# Altium schematic symbol library Schlib.SchLib: 28 symbols
Pins are listed as number, name and electrical type; pins without a type are passive.

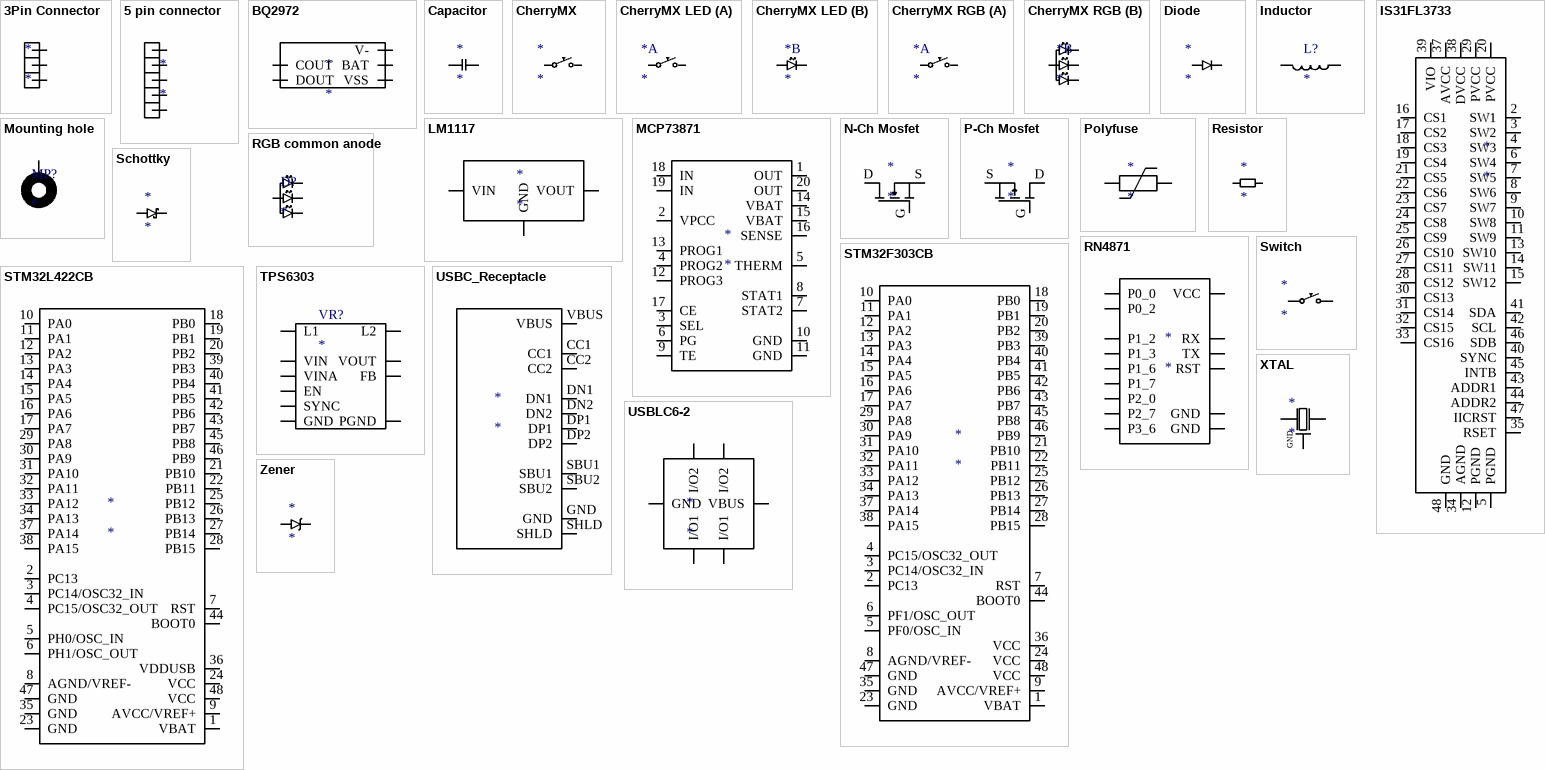
[diagram p0: symbols 3Pin Connector to Zener]

## 3Pin Connector
designator *
pins: 1, 2, 3

## 5 pin connector
designator *
pins: 1, 2, 3, 4, 5

## BQ2972
designator *
pins: 2 COUT, 3 DOUT, 4 VSS, 5 BAT, 6 V-

## Capacitor
designator *
pins: 1 6, 2 7

## CherryMX
designator *
pins: 1 4, 2 5

## CherryMX LED
designator *
part A pins: 1 4, 2 5
part B pins: A 6, K 7

## CherryMX RGB
designator *
part A pins: 1 4, 2 5
part B pins: A 6, B 7, G 7, R 7

## Diode
designator *
pins: A 6, K 7

## Inductor
designator L?
pins: 1, 2

## IS31FL3733
designator *
pins: 2 SW1, 3 SW2, 4 SW3, 5 PGND, 6 SW4, 7 SW5, 8 SW6, 9 SW7, 10 SW8, 11 SW9, 12 PGND, 13 SW10, 14 SW11, 15 SW12, 16 CS1, 17 CS2, 18 CS3, 19 CS4, 20 PVCC, 21 CS5, 22 CS6, 23 CS7, 24 CS8, 25 CS9, 26 CS10, 27 CS11, 28 CS12, 29 PVCC, 30 CS13, 31 CS14, 32 CS15, 33 CS16, 34 AGND, 35 RSET, 37 AVCC, 38 DVCC, 39 VIO, 40 SYNC, 41 SDA, 42 SCL, 43 ADDR1, 44 ADDR2, 45 INTB, 46 SDB, 47 IICRST, 48 GND

## LM1117
designator *
pins: 1 GND, 2 VOUT, 3 VIN

## MCP73871
designator *
pins: 1 OUT, 2 VPCC, 3 SEL, 4 PROG2, 5 THERM, 6 PG, 7 STAT2, 8 STAT1, 9 TE, 10 GND, 11 GND, 12 PROG3, 13 PROG1, 14 VBAT, 15 VBAT, 16 SENSE, 17 CE, 18 IN, 19 IN, 20 OUT

## Mounting hole
designator MP?
pins: 1

## N-Ch Mosfet
designator *
pins: D, G, S

## P-Ch Mosfet
designator *
pins: D, G, S

## Polyfuse
designator *
pins: 1 17, 2 18

## Resistor
designator *
pins: 1 7, 2 6

## RGB common anode
designator D?
pins: A 6, B 7, G 7, R 7

## RN4871
designator *
pins: 2 GND, 3 P1_2, 4 P1_3, 5 P1_7, 6 P1_6, 7 RX, 8 TX, 9 P3_6, 10 RST, 11 P0_0, 12 P0_2, 13 GND, 14 VCC, 15 P2_7, 16 P2_0

## Schottky
designator *
pins: A 6, K 7

## STM32F303CB
designator *
pins: 1 VBAT, 2 PC13, 3 PC14/OSC32_IN, 4 PC15/OSC32_OUT, 5 PF0/OSC_IN, 6 PF1/OSC_OUT, 7 RST, 8 AGND/VREF- "VSSA/VREF-", 9 AVCC/VREF+, 10 PA0, 11 PA1, 12 PA2, 13 PA3, 14 PA4, 15 PA5, 16 PA6, 17 PA7, 18 PB0, 19 PB1, 20 PB2, 21 PB10, 22 PB11, 23 GND, 24 VCC, 25 PB12, 26 PB13, 27 PB14, 28 PB15, 29 PA8, 30 PA9, 31 PA10, 32 PA11, 33 PA12, 34 PA13, 35 GND, 36 VCC, 37 PA14, 38 PA15, 39 PB3, 40 PB4, 41 PB5, 42 PB6, 43 PB7, 44 BOOT0, 45 PB8, 46 PB9, 47 GND, 48 VCC

## STM32L422CB
designator *
pins: 1 VBAT, 2 PC13, 3 PC14/OSC32_IN, 4 PC15/OSC32_OUT, 5 PH0/OSC_IN, 6 PH1/OSC_OUT, 7 RST, 8 AGND/VREF- "VSSA/VREF-", 9 AVCC/VREF+, 10 PA0, 11 PA1, 12 PA2, 13 PA3, 14 PA4, 15 PA5, 16 PA6, 17 PA7, 18 PB0, 19 PB1, 20 PB2, 21 PB10, 22 PB11, 23 GND, 24 VCC, 25 PB12, 26 PB13, 27 PB14, 28 PB15, 29 PA8, 30 PA9, 31 PA10, 32 PA11, 33 PA12, 34 PA13, 35 GND, 36 VDDUSB, 37 PA14, 38 PA15, 39 PB3, 40 PB4, 41 PB5, 42 PB6, 43 PB7, 44 BOOT0, 45 PB8, 46 PB9, 47 GND, 48 VCC

## Switch
designator *
pins: 1 4, 2 5

## TPS6303
designator VR?
pins: 1 VOUT, 2 L2, 3 PGND, 4 L1, 5 VIN, 6 EN, 7 SYNC, 8 VINA, 9 GND, 10 FB

## USBC_Receptacle
designator *
pins: CC1, CC2, DN1, DN2, DP1, DP2, GND, SBU1, SBU2, SHLD, VBUS

## USBLC6-2
designator *
pins: 1 I/O1, 2 GND, 3 I/O2, 4 I/O2, 5 VBUS, 6 I/O1

## XTAL
designator *
pins: 1 55, 3 54, GND

## Zener
designator *
pins: A 6, K 7